# EAGLE library part ELE02_TIVA (library ele02)
Conectores da placa Tiva Launch Pad
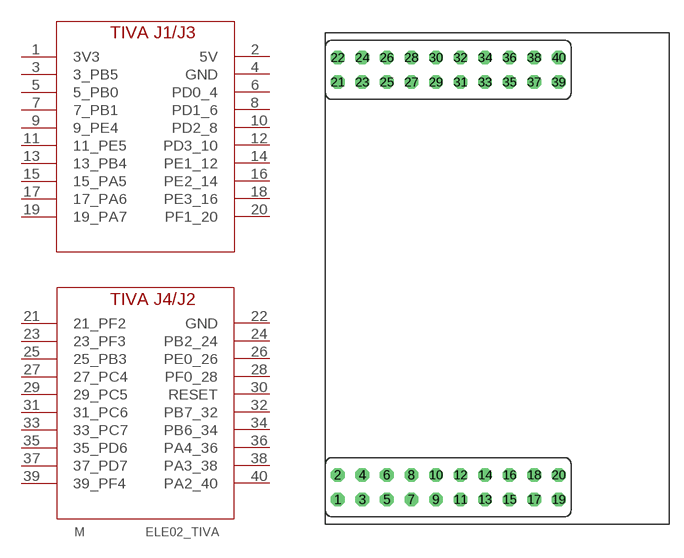
[diagram p7: symbol with the pads of ELE02_TIVA; footprint ELE02_TIVA]

Designator prefix M

## ELE02_TIVA  [ELE02_TIVA]
1  3V3
2  5V
3  3_PB5
4  GND
5  5_PB0
6  PD0_4  nc
7  7_PB1
8  PD1_6  nc
9  9_PE4
10  PD2_8
11  11_PE5
12  PD3_10
13  13_PB4
14  PE1_12
15  15_PA5
16  PE2_14
17  17_PA6
18  PE3_16
19  19_PA7  nc
20  PF1_20
21  21_PF2  nc
22  GND  in
23  23_PF3  nc
24  PB2_24  in
25  25_PB3
26  PE0_26
27  27_PC4
28  PF0_28
29  29_PC5  in
30  RESET  nc
31  31_PC6
32  PB7_32
33  33_PC7
34  PB6_34
35  35_PD6  nc
36  PA4_36  in
37  37_PD7  nc
38  PA3_38  in
39  39_PF4
40  PA2_40

## Footprint ELE02_TIVA (pad centres in mm)
drill 0.914 octagon: 1 1.27,1.27; 2 1.27,3.81; 3 3.81,1.27; 4 3.81,3.81; 5 6.35,1.27; 6 6.35,3.81; 7 8.89,1.27; 8 8.89,3.81; 9 11.43,1.27; 10 11.43,3.81; 11 13.97,1.27; 12 13.97,3.81; 13 16.51,1.27; 14 16.51,3.81; 15 19.05,1.27; 16 19.05,3.81; 17 21.59,1.27; 18 21.59,3.81; 19 24.13,1.27; 20 24.13,3.81; 21 1.27,44.45; 22 1.27,46.99; 23 3.81,44.45; 24 3.81,46.99; 25 6.35,44.45; 26 6.35,46.99; 27 8.89,44.45; 28 8.89,46.99; 29 11.43,44.45; 30 11.43,46.99; 31 13.97,44.45; 32 13.97,46.99; 33 16.51,44.45; 34 16.51,46.99; 35 19.05,44.45; 36 19.05,46.99; 37 21.59,44.45; 38 21.59,46.99; 39 24.13,44.45; 40 24.13,46.99